# Altium footprint library Burr-Brown Footprints.PcbLib: 201 footprints (part 8 of 13)
Each footprint in its own frame and in the unit in brackets; x right, y up, seen from the top. Pads: shape width x height; smd on the part's side, far side on the other; paste and mask are expansions set on the pad; w line width, h text height; cw(c..) or ccw(c..) is an arc to the next point about the centre after c.
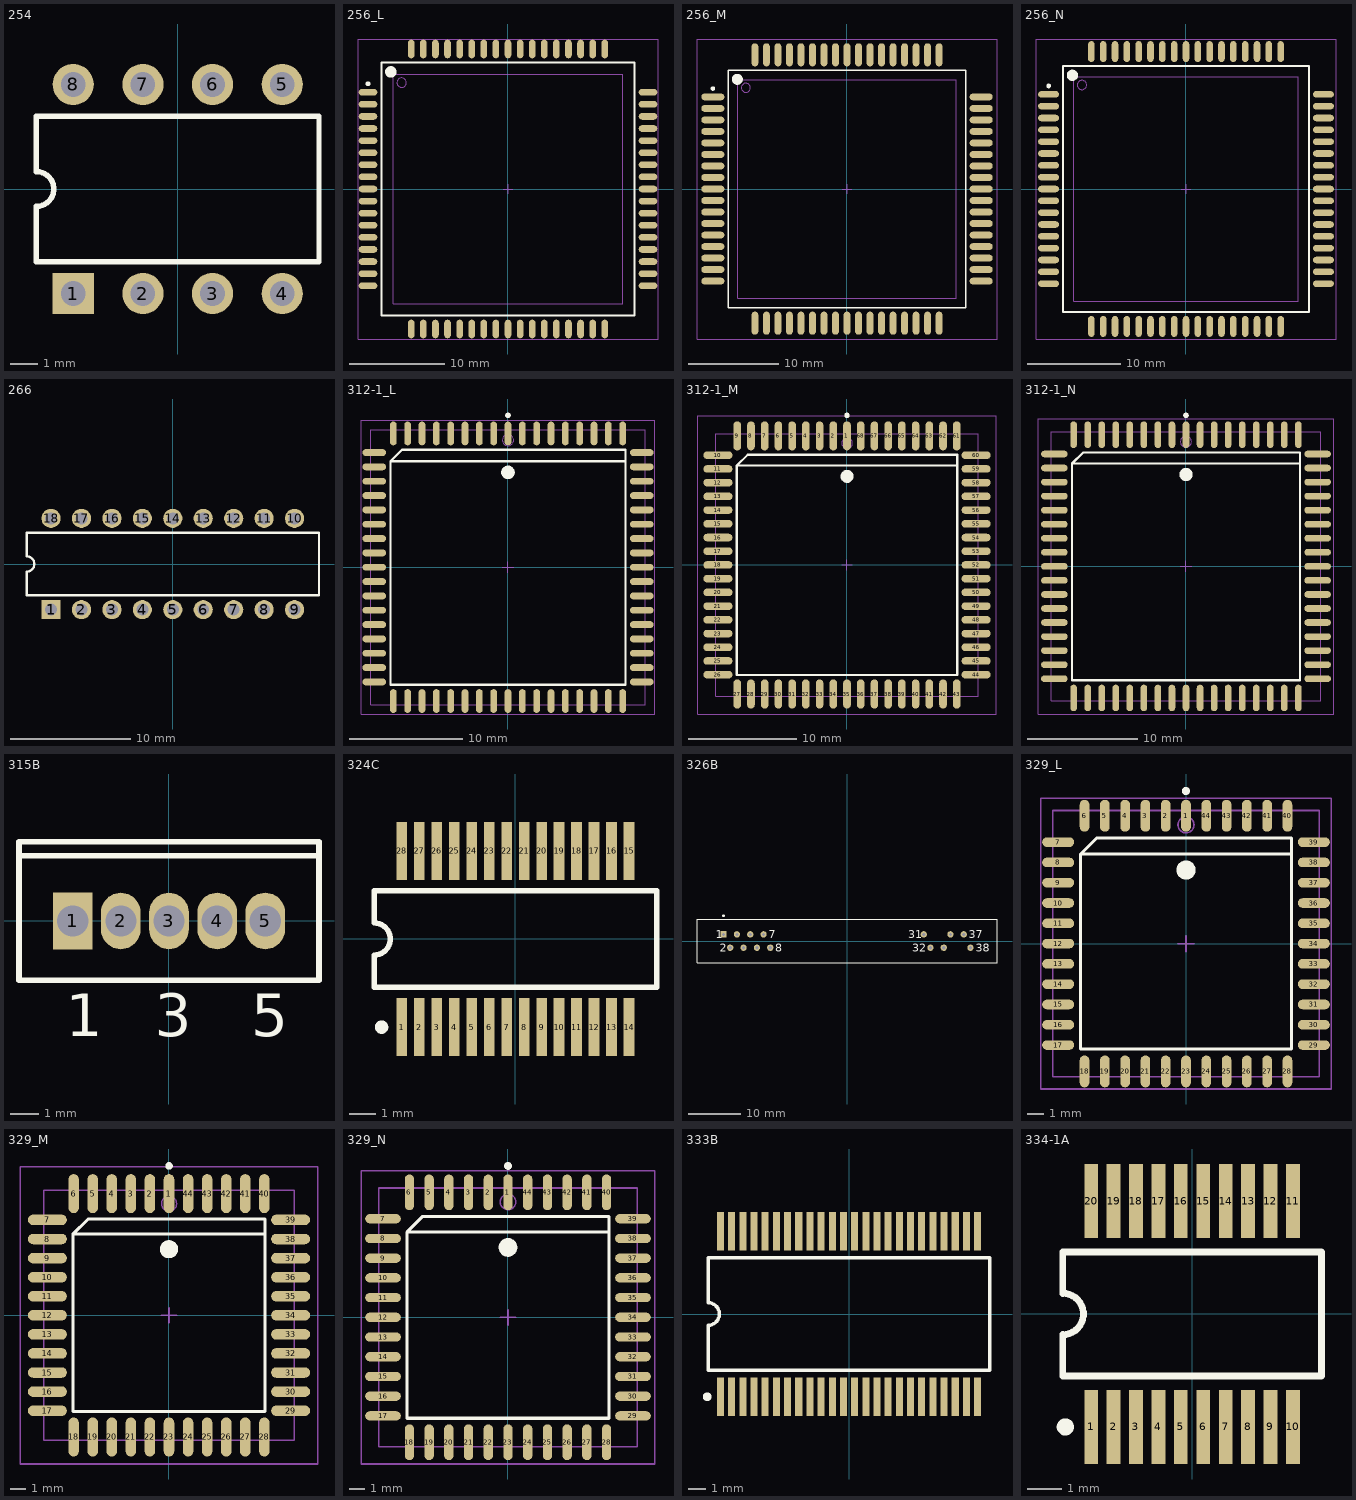
[diagram p7: the footprints below, top view; thin cyan lines are the x and y axes]

## 254 [mm] "DIP; 8 Leads; Row Spacing 7.62 mm; Pitch 2.54 mm"
height 5.44
pads (8):
  rect 1.5x1.5 hole 0.9: 1(-3.81,-3.81)
  round 1.5 hole 0.9: 2(-1.27,-3.81) 3(1.27,-3.81) 4(3.81,-3.81) 5(3.81,3.81) 6(1.27,3.81) 7(-1.27,3.81) 8(-3.81,3.81)
Top Overlay:
  lines w0.2: -5.15,-2.65 -5.15,-0.635 ccw(c-5.15,0) -5.15,0.635 -5.15,2.65 5.15,2.65 5.15,-2.65 -5.15,-2.65

## 256_L [mm] "68-Pin Quad Flat Pack 1.27 mm Pitch, IPC High Density"
height 4.81
pads (68):
  oval 1.95x0.7 smd: 1(-14.7,10.16) 2(-14.7,8.89) 3(-14.7,7.62) 4(-14.7,6.35) 5(-14.7,5.08) 6(-14.7,3.81) 7(-14.7,2.54) 8(-14.7,1.27) 9(-14.7,0) 10(-14.7,-1.27) 11(-14.7,-2.54) 12(-14.7,-3.81) 13(-14.7,-5.08) 14(-14.7,-6.35) 15(-14.7,-7.62) 16(-14.7,-8.89) 17(-14.7,-10.16) 35(14.7,-10.16) 36(14.7,-8.89) 37(14.7,-7.62) 38(14.7,-6.35) 39(14.7,-5.08) 40(14.7,-3.81) 41(14.7,-2.54) 42(14.7,-1.27) 43(14.7,0) 44(14.7,1.27) 45(14.7,2.54) 46(14.7,3.81) 47(14.7,5.08) 48(14.7,6.35) 49(14.7,7.62) 50(14.7,8.89) 51(14.7,10.16)
  oval 0.7x1.95 smd: 18(-10.16,-14.7) 19(-8.89,-14.7) 20(-7.62,-14.7) 21(-6.35,-14.7) 22(-5.08,-14.7) 23(-3.81,-14.7) 24(-2.54,-14.7) 25(-1.27,-14.7) 26(0,-14.7) 27(1.27,-14.7) 28(2.54,-14.7) 29(3.81,-14.7) 30(5.08,-14.7) 31(6.35,-14.7) 32(7.62,-14.7) 33(8.89,-14.7) 34(10.16,-14.7) 52(10.16,14.7) 53(8.89,14.7) 54(7.62,14.7) 55(6.35,14.7) 56(5.08,14.7) 57(3.81,14.7) 58(2.54,14.7) 59(1.27,14.7) 60(0,14.7) 61(-1.27,14.7) 62(-2.54,14.7) 63(-3.81,14.7) 64(-5.08,14.7) 65(-6.35,14.7) 66(-7.62,14.7) 67(-8.89,14.7) 68(-10.16,14.7)
Top Overlay:
  circle w0.25: c-14.7,11.06 r0.125
  circle w0.6: c-12.3,12.3 r0.3
  lines w0.2: -13.3,-13.3 -13.3,13.3 13.3,13.3 13.3,-13.3 -13.3,-13.3
Mechanical 13:
  circle w0.1: c-11.165,11.165 r0.5
  lines w0.1: -12.065,-12.065 -12.065,12.065 12.065,12.065 12.065,-12.065 -12.065,-12.065
Mechanical 15:
  lines w0.1: -0.5,0 0.5,0 ; 0,-0.5 0,0.5 ; -15.75,-15.75 -15.75,15.75 15.75,15.75 15.75,-15.75 -15.75,-15.75
3D body: height 4.81, standoff 0, extent -12.065,-12.065 12.065,12.065

## 256_M [mm] "68-Pin Quad Flat Pack 1.27 mm Pitch, IPC Low Density"
height 4.81
pads (68):
  oval 2.55x0.75 smd: 1(-14.8,10.16) 2(-14.8,8.89) 3(-14.8,7.62) 4(-14.8,6.35) 5(-14.8,5.08) 6(-14.8,3.81) 7(-14.8,2.54) 8(-14.8,1.27) 9(-14.8,0) 10(-14.8,-1.27) 11(-14.8,-2.54) 12(-14.8,-3.81) 13(-14.8,-5.08) 14(-14.8,-6.35) 15(-14.8,-7.62) 16(-14.8,-8.89) 17(-14.8,-10.16) 35(14.8,-10.16) 36(14.8,-8.89) 37(14.8,-7.62) 38(14.8,-6.35) 39(14.8,-5.08) 40(14.8,-3.81) 41(14.8,-2.54) 42(14.8,-1.27) 43(14.8,0) 44(14.8,1.27) 45(14.8,2.54) 46(14.8,3.81) 47(14.8,5.08) 48(14.8,6.35) 49(14.8,7.62) 50(14.8,8.89) 51(14.8,10.16)
  oval 0.75x2.55 smd: 18(-10.16,-14.8) 19(-8.89,-14.8) 20(-7.62,-14.8) 21(-6.35,-14.8) 22(-5.08,-14.8) 23(-3.81,-14.8) 24(-2.54,-14.8) 25(-1.27,-14.8) 26(0,-14.8) 27(1.27,-14.8) 28(2.54,-14.8) 29(3.81,-14.8) 30(5.08,-14.8) 31(6.35,-14.8) 32(7.62,-14.8) 33(8.89,-14.8) 34(10.16,-14.8) 52(10.16,14.8) 53(8.89,14.8) 54(7.62,14.8) 55(6.35,14.8) 56(5.08,14.8) 57(3.81,14.8) 58(2.54,14.8) 59(1.27,14.8) 60(0,14.8) 61(-1.27,14.8) 62(-2.54,14.8) 63(-3.81,14.8) 64(-5.08,14.8) 65(-6.35,14.8) 66(-7.62,14.8) 67(-8.89,14.8) 68(-10.16,14.8)
Top Overlay:
  circle w0.25: c-14.8,11.085 r0.125
  circle w0.6: c-12.1,12.1 r0.3
  lines w0.2: -13.1,-13.1 -13.1,13.1 13.1,13.1 13.1,-13.1 -13.1,-13.1
Mechanical 13:
  circle w0.1: c-11.165,11.165 r0.5
  lines w0.1: -12.065,-12.065 -12.065,12.065 12.065,12.065 12.065,-12.065 -12.065,-12.065
Mechanical 15:
  lines w0.1: -0.5,0 0.5,0 ; 0,-0.5 0,0.5 ; -16.55,-16.55 -16.55,16.55 16.55,16.55 16.55,-16.55 -16.55,-16.55
3D body: height 4.81, standoff 0, extent -12.065,-12.065 12.065,12.065

## 256_N [mm] "68-Pin Quad Flat Pack 1.27 mm Pitch, IPC Medium Density"
height 4.81
pads (68):
  oval 2.25x0.7 smd: 1(-14.75,10.16) 2(-14.75,8.89) 3(-14.75,7.62) 4(-14.75,6.35) 5(-14.75,5.08) 6(-14.75,3.81) 7(-14.75,2.54) 8(-14.75,1.27) 9(-14.75,0) 10(-14.75,-1.27) 11(-14.75,-2.54) 12(-14.75,-3.81) 13(-14.75,-5.08) 14(-14.75,-6.35) 15(-14.75,-7.62) 16(-14.75,-8.89) 17(-14.75,-10.16) 35(14.75,-10.16) 36(14.75,-8.89) 37(14.75,-7.62) 38(14.75,-6.35) 39(14.75,-5.08) 40(14.75,-3.81) 41(14.75,-2.54) 42(14.75,-1.27) 43(14.75,0) 44(14.75,1.27) 45(14.75,2.54) 46(14.75,3.81) 47(14.75,5.08) 48(14.75,6.35) 49(14.75,7.62) 50(14.75,8.89) 51(14.75,10.16)
  oval 0.7x2.25 smd: 18(-10.16,-14.75) 19(-8.89,-14.75) 20(-7.62,-14.75) 21(-6.35,-14.75) 22(-5.08,-14.75) 23(-3.81,-14.75) 24(-2.54,-14.75) 25(-1.27,-14.75) 26(0,-14.75) 27(1.27,-14.75) 28(2.54,-14.75) 29(3.81,-14.75) 30(5.08,-14.75) 31(6.35,-14.75) 32(7.62,-14.75) 33(8.89,-14.75) 34(10.16,-14.75) 52(10.16,14.75) 53(8.89,14.75) 54(7.62,14.75) 55(6.35,14.75) 56(5.08,14.75) 57(3.81,14.75) 58(2.54,14.75) 59(1.27,14.75) 60(0,14.75) 61(-1.27,14.75) 62(-2.54,14.75) 63(-3.81,14.75) 64(-5.08,14.75) 65(-6.35,14.75) 66(-7.62,14.75) 67(-8.89,14.75) 68(-10.16,14.75)
Top Overlay:
  circle w0.25: c-14.75,11.06 r0.125
  circle w0.6: c-12.2,12.2 r0.3
  lines w0.2: -13.2,-13.2 -13.2,13.2 13.2,13.2 13.2,-13.2 -13.2,-13.2
Mechanical 13:
  circle w0.1: c-11.165,11.165 r0.5
  lines w0.1: -12.065,-12.065 -12.065,12.065 12.065,12.065 12.065,-12.065 -12.065,-12.065
Mechanical 15:
  lines w0.1: -0.5,0 0.5,0 ; 0,-0.5 0,0.5 ; -16.1,-16.1 -16.1,16.1 16.1,16.1 16.1,-16.1 -16.1,-16.1
3D body: height 4.81, standoff 0, extent -12.065,-12.065 12.065,12.065

## 266 [mm] "DIP; 18 Leads; Row Spacing 7.62 mm; Pitch 2.54 mm"
height 5.08
pads (18):
  rect 1.6x1.6 hole 1: 1(-10.16,-3.81)
  round 1.6 hole 1: 2(-7.62,-3.81) 3(-5.08,-3.81) 4(-2.54,-3.81) 5(0,-3.81) 6(2.54,-3.81) 7(5.08,-3.81) 8(7.62,-3.81) 9(10.16,-3.81) 10(10.16,3.81) 11(7.62,3.81) 12(5.08,3.81) 13(2.54,3.81) 14(0,3.81) 15(-2.54,3.81) 16(-5.08,3.81) 17(-7.62,3.81) 18(-10.16,3.81)
Top Overlay:
  lines w0.2: -12.2,-2.6 -12.2,-0.635 ccw(c-12.2,0) -12.2,0.635 -12.2,2.6 12.2,2.6 12.2,-2.6 -12.2,-2.6

## 312-1_L [mm] "68-Pin Leaded Chip Carrier 1.27 mm Pitch, IPC High Density"
height 4.5
pads (68):
  oval 0.6x2.1 smd: 1(0,11.85) 2(-1.27,11.85) 3(-2.54,11.85) 4(-3.81,11.85) 5(-5.08,11.85) 6(-6.35,11.85) 7(-7.62,11.85) 8(-8.89,11.85) 9(-10.16,11.85) 27(-10.16,-11.85) 28(-8.89,-11.85) 29(-7.62,-11.85) 30(-6.35,-11.85) 31(-5.08,-11.85) 32(-3.81,-11.85) 33(-2.54,-11.85) 34(-1.27,-11.85) 35(0,-11.85) 36(1.27,-11.85) 37(2.54,-11.85) 38(3.81,-11.85) 39(5.08,-11.85) 40(6.35,-11.85) 41(7.62,-11.85) 42(8.89,-11.85) 43(10.16,-11.85) 61(10.16,11.85) 62(8.89,11.85) 63(7.62,11.85) 64(6.35,11.85) 65(5.08,11.85) 66(3.81,11.85) 67(2.54,11.85) 68(1.27,11.85)
  oval 2.1x0.6 smd: 10(-11.85,10.16) 11(-11.85,8.89) 12(-11.85,7.62) 13(-11.85,6.35) 14(-11.85,5.08) 15(-11.85,3.81) 16(-11.85,2.54) 17(-11.85,1.27) 18(-11.85,0) 19(-11.85,-1.27) 20(-11.85,-2.54) 21(-11.85,-3.81) 22(-11.85,-5.08) 23(-11.85,-6.35) 24(-11.85,-7.62) 25(-11.85,-8.89) 26(-11.85,-10.16) 44(11.85,-10.16) 45(11.85,-8.89) 46(11.85,-7.62) 47(11.85,-6.35) 48(11.85,-5.08) 49(11.85,-3.81) 50(11.85,-2.54) 51(11.85,-1.27) 52(11.85,0) 53(11.85,1.27) 54(11.85,2.54) 55(11.85,3.81) 56(11.85,5.08) 57(11.85,6.35) 58(11.85,7.62) 59(11.85,8.89) 60(11.85,10.16)
Top Overlay:
  circle w0.25: c0,13.45 r0.125
  circle w0.6: c0,8.4 r0.3
  lines w0.2: 10.4,9.4 -10.4,9.4 ; -10.4,9.4 -9.4,10.4 10.4,10.4 10.4,-10.4 -10.4,-10.4 -10.4,9.4
Mechanical 13:
  circle w0.1: c0,11.265 r0.5
  lines w0.1: -12.165,-12.165 -12.165,12.165 12.165,12.165 12.165,-12.165 -12.165,-12.165
Mechanical 15:
  lines w0.1: -0.5,0 0.5,0 ; 0,-0.5 0,0.5 ; -13,-13 -13,13 13,13 13,-13 -13,-13
3D body: height 4.5, standoff 0, extent -12.165,-12.165 12.165,12.165

## 312-1_M [mm] "68-Pin Leaded Chip Carrier 1.27 mm Pitch, IPC Low Density"
height 4.5
pads (68):
  oval 0.7x2.7 smd: 1(0,11.95) 2(-1.27,11.95) 3(-2.54,11.95) 4(-3.81,11.95) 5(-5.08,11.95) 6(-6.35,11.95) 7(-7.62,11.95) 8(-8.89,11.95) 9(-10.16,11.95) 27(-10.16,-11.95) 28(-8.89,-11.95) 29(-7.62,-11.95) 30(-6.35,-11.95) 31(-5.08,-11.95) 32(-3.81,-11.95) 33(-2.54,-11.95) 34(-1.27,-11.95) 35(0,-11.95) 36(1.27,-11.95) 37(2.54,-11.95) 38(3.81,-11.95) 39(5.08,-11.95) 40(6.35,-11.95) 41(7.62,-11.95) 42(8.89,-11.95) 43(10.16,-11.95) 61(10.16,11.95) 62(8.89,11.95) 63(7.62,11.95) 64(6.35,11.95) 65(5.08,11.95) 66(3.81,11.95) 67(2.54,11.95) 68(1.27,11.95)
  oval 2.7x0.7 smd: 10(-11.95,10.16) 11(-11.95,8.89) 12(-11.95,7.62) 13(-11.95,6.35) 14(-11.95,5.08) 15(-11.95,3.81) 16(-11.95,2.54) 17(-11.95,1.27) 18(-11.95,0) 19(-11.95,-1.27) 20(-11.95,-2.54) 21(-11.95,-3.81) 22(-11.95,-5.08) 23(-11.95,-6.35) 24(-11.95,-7.62) 25(-11.95,-8.89) 26(-11.95,-10.16) 44(11.95,-10.16) 45(11.95,-8.89) 46(11.95,-7.62) 47(11.95,-6.35) 48(11.95,-5.08) 49(11.95,-3.81) 50(11.95,-2.54) 51(11.95,-1.27) 52(11.95,0) 53(11.95,1.27) 54(11.95,2.54) 55(11.95,3.81) 56(11.95,5.08) 57(11.95,6.35) 58(11.95,7.62) 59(11.95,8.89) 60(11.95,10.16)
Top Overlay:
  circle w0.25: c0,13.85 r0.125
  circle w0.6: c0,8.2 r0.3
  lines w0.2: 10.2,9.2 -10.2,9.2 ; -10.2,9.2 -9.2,10.2 10.2,10.2 10.2,-10.2 -10.2,-10.2 -10.2,9.2
Mechanical 13:
  circle w0.1: c0,11.265 r0.5
  lines w0.1: -12.165,-12.165 -12.165,12.165 12.165,12.165 12.165,-12.165 -12.165,-12.165
Mechanical 15:
  lines w0.1: -0.5,0 0.5,0 ; 0,-0.5 0,0.5 ; -13.8,-13.8 -13.8,13.8 13.8,13.8 13.8,-13.8 -13.8,-13.8
3D body: height 4.5, standoff 0, extent -12.165,-12.165 12.165,12.165

## 312-1_N [mm] "68-Pin Leaded Chip Carrier 1.27 mm Pitch, IPC Medium Density"
height 4.5
pads (68):
  oval 0.6x2.4 smd: 1(0,11.9) 2(-1.27,11.9) 3(-2.54,11.9) 4(-3.81,11.9) 5(-5.08,11.9) 6(-6.35,11.9) 7(-7.62,11.9) 8(-8.89,11.9) 9(-10.16,11.9) 27(-10.16,-11.9) 28(-8.89,-11.9) 29(-7.62,-11.9) 30(-6.35,-11.9) 31(-5.08,-11.9) 32(-3.81,-11.9) 33(-2.54,-11.9) 34(-1.27,-11.9) 35(0,-11.9) 36(1.27,-11.9) 37(2.54,-11.9) 38(3.81,-11.9) 39(5.08,-11.9) 40(6.35,-11.9) 41(7.62,-11.9) 42(8.89,-11.9) 43(10.16,-11.9) 61(10.16,11.9) 62(8.89,11.9) 63(7.62,11.9) 64(6.35,11.9) 65(5.08,11.9) 66(3.81,11.9) 67(2.54,11.9) 68(1.27,11.9)
  oval 2.4x0.6 smd: 10(-11.9,10.16) 11(-11.9,8.89) 12(-11.9,7.62) 13(-11.9,6.35) 14(-11.9,5.08) 15(-11.9,3.81) 16(-11.9,2.54) 17(-11.9,1.27) 18(-11.9,0) 19(-11.9,-1.27) 20(-11.9,-2.54) 21(-11.9,-3.81) 22(-11.9,-5.08) 23(-11.9,-6.35) 24(-11.9,-7.62) 25(-11.9,-8.89) 26(-11.9,-10.16) 44(11.9,-10.16) 45(11.9,-8.89) 46(11.9,-7.62) 47(11.9,-6.35) 48(11.9,-5.08) 49(11.9,-3.81) 50(11.9,-2.54) 51(11.9,-1.27) 52(11.9,0) 53(11.9,1.27) 54(11.9,2.54) 55(11.9,3.81) 56(11.9,5.08) 57(11.9,6.35) 58(11.9,7.62) 59(11.9,8.89) 60(11.9,10.16)
Top Overlay:
  circle w0.25: c0,13.65 r0.125
  circle w0.6: c0,8.3 r0.3
  lines w0.2: 10.3,9.3 -10.3,9.3 ; -10.3,9.3 -9.3,10.3 10.3,10.3 10.3,-10.3 -10.3,-10.3 -10.3,9.3
Mechanical 13:
  circle w0.1: c0,11.265 r0.5
  lines w0.1: -12.165,-12.165 -12.165,12.165 12.165,12.165 12.165,-12.165 -12.165,-12.165
Mechanical 15:
  lines w0.1: -0.5,0 0.5,0 ; 0,-0.5 0,0.5 ; -13.35,-13.35 -13.35,13.35 13.35,13.35 13.35,-13.35 -13.35,-13.35
3D body: height 4.5, standoff 0, extent -12.165,-12.165 12.165,12.165

## 315B [mm] "TO, Thru-Hole, Vertical, Heatsink Mounted; 5 In-Line Leads; Pitch 1.70 mm"
height 15
pads (5):
  rect 1.4x2 hole 1.1: 1(-3.4,0)
  oval 1.4x2 hole 1.1: 2(-1.7,0) 3(0,0) 4(1.7,0) 5(3.4,0)
Top Overlay:
  lines w0.2: -5.3,2.3 5.3,2.3 ; -5.3,-2.1 -5.3,2.8 5.3,2.8 5.3,-2.1 -5.3,-2.1
  text "5" at 2.9,-4.075 h1.5
  text "3" at -0.5,-4.075 h1.5
  text "1" at -3.65,-4.075 h1.5

## 324C [mm] "SSOP, Plastic; 28 Leads; Body Width 5.3 mm; Pitch 0.65 mm"
height 2
pads (28):
  rect 0.4x2.15 smd: 1(-4.225,-3.275) 2(-3.575,-3.275) 3(-2.925,-3.275) 4(-2.275,-3.275) 5(-1.625,-3.275) 6(-0.975,-3.275) 7(-0.325,-3.275) 8(0.325,-3.275) 9(0.975,-3.275) 10(1.625,-3.275) 11(2.275,-3.275) 12(2.925,-3.275) 13(3.575,-3.275) 14(4.225,-3.275) 15(4.225,3.275) 16(3.575,3.275) 17(2.925,3.275) 18(2.275,3.275) 19(1.625,3.275) 20(0.975,3.275) 21(0.325,3.275) 22(-0.325,3.275) 23(-0.975,3.275) 24(-1.625,3.275) 25(-2.275,3.275) 26(-2.925,3.275) 27(-3.575,3.275) 28(-4.225,3.275)
Top Overlay:
  circle w0.25: c-4.975,-3.275 r0.125
  lines w0.2: -5.25,-1.8 5.25,-1.8 5.25,1.8 -5.25,1.8 -5.25,0.6 cw(c-5.25,0) -5.25,-0.6 -5.25,-1.8

## 326B [mm] "ZIP; 38 Leads (24 Absent); Row Space 2.54 mm; Pitch 1.27 mm"
pads (14):
  rect 1.2x1.2 hole 0.6: 1(-23.495,1.27)
  round 1.2 hole 0.6: 2(-22.225,-1.27) 3(-20.955,1.27) 4(-19.685,-1.27) 5(-18.415,1.27) 6(-17.145,-1.27) 7(-15.875,1.27) 8(-14.605,-1.27) 31(14.605,1.27) 32(15.875,-1.27) 34(18.415,-1.27) 35(19.685,1.27) 37(22.225,1.27) 38(23.495,-1.27)
Top Overlay:
  circle w0.25: c-23.495,4.8 r0.125
  lines w0.2: -28.55,-4.15 28.55,-4.15 28.55,4.15 -28.55,4.15 -28.55,-4.15
  text "37" at 23.2,0.52 h1.5
  text "38" at 24.47,-2.02 h1.5
  text "32" at 12.4,-2.042 h1.5
  text "31" at 11.63,0.52 h1.5
  text "8" at -13.63,-2.02 h1.5
  text "7" at -14.9,0.52 h1.5
  text "2" at -24.2,-2.02 h1.5
  text "1" at -24.97,0.52 h1.5

## 329_L [mm] "44-Pin Leaded Chip Carrier 1.27 mm Pitch, IPC High Density"
height 4.57
pads (44):
  oval 0.6x2 smd: 1(0,8) 2(-1.27,8) 3(-2.54,8) 4(-3.81,8) 5(-5.08,8) 6(-6.35,8) 18(-6.35,-8) 19(-5.08,-8) 20(-3.81,-8) 21(-2.54,-8) 22(-1.27,-8) 23(0,-8) 24(1.27,-8) 25(2.54,-8) 26(3.81,-8) 27(5.08,-8) 28(6.35,-8) 40(6.35,8) 41(5.08,8) 42(3.81,8) 43(2.54,8) 44(1.27,8)
  oval 2x0.6 smd: 7(-8,6.35) 8(-8,5.08) 9(-8,3.81) 10(-8,2.54) 11(-8,1.27) 12(-8,0) 13(-8,-1.27) 14(-8,-2.54) 15(-8,-3.81) 16(-8,-5.08) 17(-8,-6.35) 29(8,-6.35) 30(8,-5.08) 31(8,-3.81) 32(8,-2.54) 33(8,-1.27) 34(8,0) 35(8,1.27) 36(8,2.54) 37(8,3.81) 38(8,5.08) 39(8,6.35)
Top Overlay:
  circle w0.25: c0,9.55 r0.125
  circle w0.6: c0,4.6 r0.3
  lines w0.2: 6.6,5.6 -6.6,5.6 ; -6.6,5.6 -5.6,6.6 6.6,6.6 6.6,-6.6 -6.6,-6.6 -6.6,5.6
Mechanical 13:
  circle w0.1: c0,7.43 r0.5
  lines w0.1: -8.33,-8.33 -8.33,8.33 8.33,8.33 8.33,-8.33 -8.33,-8.33
Mechanical 15:
  lines w0.1: -0.5,0 0.5,0 ; 0,-0.5 0,0.5 ; -9.1,-9.1 -9.1,9.1 9.1,9.1 9.1,-9.1 -9.1,-9.1
3D body: height 4.57, standoff 0, extent -8.33,-8.33 8.33,8.33

## 329_M [mm] "44-Pin Leaded Chip Carrier 1.27 mm Pitch, IPC Low Density"
height 4.57
pads (44):
  oval 0.7x2.6 smd: 1(0,8.1) 2(-1.27,8.1) 3(-2.54,8.1) 4(-3.81,8.1) 5(-5.08,8.1) 6(-6.35,8.1) 18(-6.35,-8.1) 19(-5.08,-8.1) 20(-3.81,-8.1) 21(-2.54,-8.1) 22(-1.27,-8.1) 23(0,-8.1) 24(1.27,-8.1) 25(2.54,-8.1) 26(3.81,-8.1) 27(5.08,-8.1) 28(6.35,-8.1) 40(6.35,8.1) 41(5.08,8.1) 42(3.81,8.1) 43(2.54,8.1) 44(1.27,8.1)
  oval 2.6x0.7 smd: 7(-8.1,6.35) 8(-8.1,5.08) 9(-8.1,3.81) 10(-8.1,2.54) 11(-8.1,1.27) 12(-8.1,0) 13(-8.1,-1.27) 14(-8.1,-2.54) 15(-8.1,-3.81) 16(-8.1,-5.08) 17(-8.1,-6.35) 29(8.1,-6.35) 30(8.1,-5.08) 31(8.1,-3.81) 32(8.1,-2.54) 33(8.1,-1.27) 34(8.1,0) 35(8.1,1.27) 36(8.1,2.54) 37(8.1,3.81) 38(8.1,5.08) 39(8.1,6.35)
Top Overlay:
  circle w0.25: c0,9.95 r0.125
  circle w0.6: c0,4.4 r0.3
  lines w0.2: 6.4,5.4 -6.4,5.4 ; -6.4,5.4 -5.4,6.4 6.4,6.4 6.4,-6.4 -6.4,-6.4 -6.4,5.4
Mechanical 13:
  circle w0.1: c0,7.43 r0.5
  lines w0.1: -8.33,-8.33 -8.33,8.33 8.33,8.33 8.33,-8.33 -8.33,-8.33
Mechanical 15:
  lines w0.1: -0.5,0 0.5,0 ; 0,-0.5 0,0.5 ; -9.9,-9.9 -9.9,9.9 9.9,9.9 9.9,-9.9 -9.9,-9.9
3D body: height 4.57, standoff 0, extent -8.33,-8.33 8.33,8.33

## 329_N [mm] "44-Pin Leaded Chip Carrier 1.27 mm Pitch, IPC Medium Density"
height 4.57
pads (44):
  oval 0.6x2.3 smd: 1(0,8.05) 2(-1.27,8.05) 3(-2.54,8.05) 4(-3.81,8.05) 5(-5.08,8.05) 6(-6.35,8.05) 18(-6.35,-8.05) 19(-5.08,-8.05) 20(-3.81,-8.05) 21(-2.54,-8.05) 22(-1.27,-8.05) 23(0,-8.05) 24(1.27,-8.05) 25(2.54,-8.05) 26(3.81,-8.05) 27(5.08,-8.05) 28(6.35,-8.05) 40(6.35,8.05) 41(5.08,8.05) 42(3.81,8.05) 43(2.54,8.05) 44(1.27,8.05)
  oval 2.3x0.6 smd: 7(-8.05,6.35) 8(-8.05,5.08) 9(-8.05,3.81) 10(-8.05,2.54) 11(-8.05,1.27) 12(-8.05,0) 13(-8.05,-1.27) 14(-8.05,-2.54) 15(-8.05,-3.81) 16(-8.05,-5.08) 17(-8.05,-6.35) 29(8.05,-6.35) 30(8.05,-5.08) 31(8.05,-3.81) 32(8.05,-2.54) 33(8.05,-1.27) 34(8.05,0) 35(8.05,1.27) 36(8.05,2.54) 37(8.05,3.81) 38(8.05,5.08) 39(8.05,6.35)
Top Overlay:
  circle w0.25: c0,9.75 r0.125
  circle w0.6: c0,4.5 r0.3
  lines w0.2: 6.5,5.5 -6.5,5.5 ; -6.5,5.5 -5.5,6.5 6.5,6.5 6.5,-6.5 -6.5,-6.5 -6.5,5.5
Mechanical 13:
  circle w0.1: c0,7.43 r0.5
  lines w0.1: -8.33,-8.33 -8.33,8.33 8.33,8.33 8.33,-8.33 -8.33,-8.33
Mechanical 15:
  lines w0.1: -0.5,0 0.5,0 ; 0,-0.5 0,0.5 ; -9.45,-9.45 -9.45,9.45 9.45,9.45 9.45,-9.45 -9.45,-9.45
3D body: height 4.57, standoff 0, extent -8.33,-8.33 8.33,8.33

## 333B [mm] "SSOP; 48 Leads; Body Width 7.5 mm; Pitch 0.635 mm"
height 2.79
pads (48):
  rect 0.4x2.2 smd: 1(-7.302,-4.7) 2(-6.667,-4.7) 3(-6.032,-4.7) 4(-5.397,-4.7) 5(-4.763,-4.7) 6(-4.127,-4.7) 7(-3.492,-4.7) 8(-2.857,-4.7) 9(-2.222,-4.7) 10(-1.587,-4.7) 11(-0.953,-4.7) 12(-0.318,-4.7) 13(0.318,-4.7) 14(0.953,-4.7) 15(1.587,-4.7) 16(2.222,-4.7) 17(2.857,-4.7) 18(3.492,-4.7) 19(4.127,-4.7) 20(4.763,-4.7) 21(5.397,-4.7) 22(6.032,-4.7) 23(6.667,-4.7) 24(7.302,-4.7) 25(7.302,4.7) 26(6.667,4.7) 27(6.032,4.7) 28(5.397,4.7) 29(4.763,4.7) 30(4.127,4.7) 31(3.492,4.7) 32(2.857,4.7) 33(2.222,4.7) 34(1.587,4.7) 35(0.953,4.7) 36(0.318,4.7) 37(-0.318,4.7) 38(-0.953,4.7) 39(-1.587,4.7) 40(-2.222,4.7) 41(-2.857,4.7) 42(-3.492,4.7) 43(-4.127,4.7) 44(-4.763,4.7) 45(-5.397,4.7) 46(-6.032,4.7) 47(-6.667,4.7) 48(-7.302,4.7)
Top Overlay:
  circle w0.25: c-8.053,-4.7 r0.125
  lines w0.2: -8,-3.2 8,-3.2 8,3.2 -8,3.2 -8,0.635 cw(c-8,0) -8,-0.635 -8,-3.2

## 334-1A [mm] "SSOP, Plastic; 20 Leads; Body Width 5.3 mm; Pitch 0.65 mm"
height 2
pads (20):
  rect 0.4x2.15 smd: 1(-2.925,-3.275) 2(-2.275,-3.275) 3(-1.625,-3.275) 4(-0.975,-3.275) 5(-0.325,-3.275) 6(0.325,-3.275) 7(0.975,-3.275) 8(1.625,-3.275) 9(2.275,-3.275) 10(2.925,-3.275) 11(2.925,3.275) 12(2.275,3.275) 13(1.625,3.275) 14(0.975,3.275) 15(0.325,3.275) 16(-0.325,3.275) 17(-0.975,3.275) 18(-1.625,3.275) 19(-2.275,3.275) 20(-2.925,3.275)
Top Overlay:
  circle w0.25: c-3.675,-3.275 r0.125
  lines w0.2: -3.75,-1.8 3.75,-1.8 3.75,1.8 -3.75,1.8 -3.75,0.6 cw(c-3.75,0) -3.75,-0.6 -3.75,-1.8